# EAGLE library part PICAXE-40X (library picaxe-2.)
PICAXE-40X Controller 32 I/O pins with ADC , PWM & I2C support
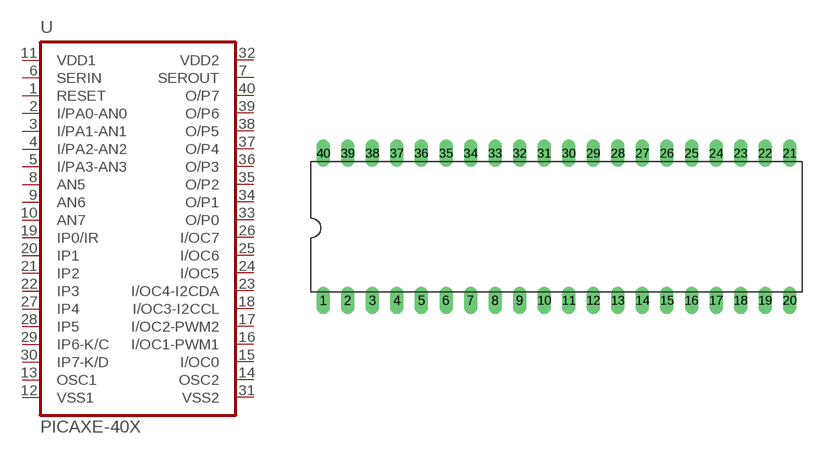
[diagram p3: symbol with the pads of DIL40; footprint DIL40]

Designator prefix U

## PICAXE-40X  [DIL40]
1  RESET  in
2  I/PA0-AN0  in
3  I/PA1-AN1  in
4  I/PA2-AN2  in
5  I/PA3-AN3  in
6  SERIN  in
7  SEROUT  out
8  AN5
9  AN6
10  AN7
11  VDD1  pwr
12  VSS1  pwr
13  OSC1  in
14  OSC2  in
15  I/OC0
16  I/OC1-PWM1
17  I/OC2-PWM2
18  I/OC3-I2CCL
19  IP0/IR  in
20  IP1  in
21  IP2  in
22  IP3  in
23  I/OC4-I2CDA
24  I/OC5
25  I/OC6
26  I/OC7
27  IP4  in
28  IP5  in
29  IP6-K/C  in
30  IP7-K/D  in
31  VSS2  pwr
32  VDD2  pwr
33  O/P0  out
34  O/P1  out
35  O/P2  out
36  O/P3  out
37  O/P4  out
38  O/P5  out
39  O/P6  out
40  O/P7  out

## Footprint DIL40 (pad centres in mm)
drill 0.813 pad 1.422 long: 1 -24.13,-7.62; 2 -21.59,-7.62; 3 -19.05,-7.62; 4 -16.51,-7.62; 5 -13.97,-7.62; 6 -11.43,-7.62; 7 -8.89,-7.62; 8 -6.35,-7.62; 9 -3.81,-7.62; 10 -1.27,-7.62; 11 1.27,-7.62; 12 3.81,-7.62; 13 6.35,-7.62; 14 8.89,-7.62; 15 11.43,-7.62; 16 13.97,-7.62; 17 16.51,-7.62; 18 19.05,-7.62; 19 21.59,-7.62; 20 24.13,-7.62; 21 24.13,7.62; 22 21.59,7.62; 23 19.05,7.62; 24 16.51,7.62; 25 13.97,7.62; 26 11.43,7.62; 27 8.89,7.62; 28 6.35,7.62; 29 3.81,7.62; 30 1.27,7.62; 31 -1.27,7.62; 32 -3.81,7.62; 33 -6.35,7.62; 34 -8.89,7.62; 35 -11.43,7.62; 36 -13.97,7.62; 37 -16.51,7.62; 38 -19.05,7.62; 39 -21.59,7.62; 40 -24.13,7.62